# Altium schematic symbol library 2020-03-21_19-27-03.SchLib: 2 symbols
Pins are listed as number, name and electrical type; pins without a type are passive.

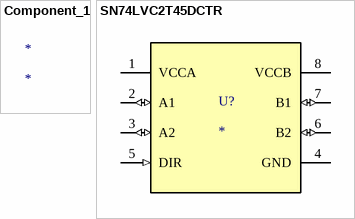
[diagram p0: symbols Component_1 to SN74LVC2T45DCTR]

## Component_1
designator *

## SN74LVC2T45DCTR
designator U?
No Description Available; PartNumber: SN74LVC2T45DCTR; Alternate_PartNumber: SN74LVC2T45DCTT; Manufacturer: Texas Instruments; CompType: IC; PIN_COUNT: 8; Application_BuildNumber: *; PackageReference: DCT0008A; MountType: SMT; RoHS: Y; RefDes: RefDes; Type: DEV; Value: Value; Copyright: Copyright (C) 2018 Accelerated Designs. All rights reserved
footprint DCT0008A_N
pins: 1 VCCA (power), 2 A1 (io), 3 A2 (io), 4 GND (power), 5 DIR (in), 6 B2 (io), 7 B1 (io), 8 VCCB (power)